# EAGLE library part R1DDUAL (library custom_parts)
Recom R1D, dual output isolated
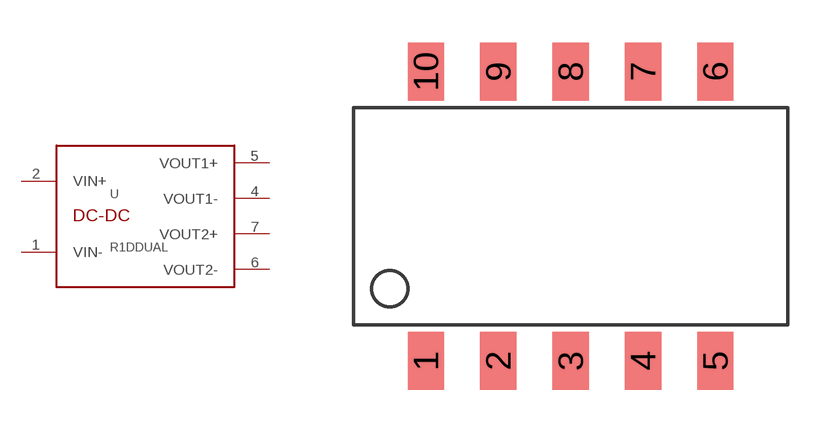
[diagram p12: symbol with the pads of R1D; footprint R1D]

Designator prefix U

## R1DDUAL  [R1D]
1  VIN-  pwr
2  VIN+  pwr
4  VOUT1-  sup
5  VOUT1+  sup
6  VOUT2-
7  VOUT2+  sup

## Footprint R1D (pad centres in mm)
This is the package for a Recom R1D DC-DC converter
smd 1.27 x 2.032: 1 -5.08,-5.08; 2 -2.54,-5.08; 3 0,-5.08; 4 2.54,-5.08; 5 5.08,-5.08; 6 5.08,5.08; 7 2.54,5.08; 8 0,5.08; 9 -2.54,5.08; 10 -5.08,5.08